# Altium footprint library l298n.PcbLib: 1 footprints
Each footprint in its own frame and in the unit in brackets; x right, y up, seen from the top. Pads: shape width x height; smd on the part's side, far side on the other; paste and mask are expansions set on the pad; w line width, h text height; cw(c..) or ccw(c..) is an arc to the next point about the centre after c.
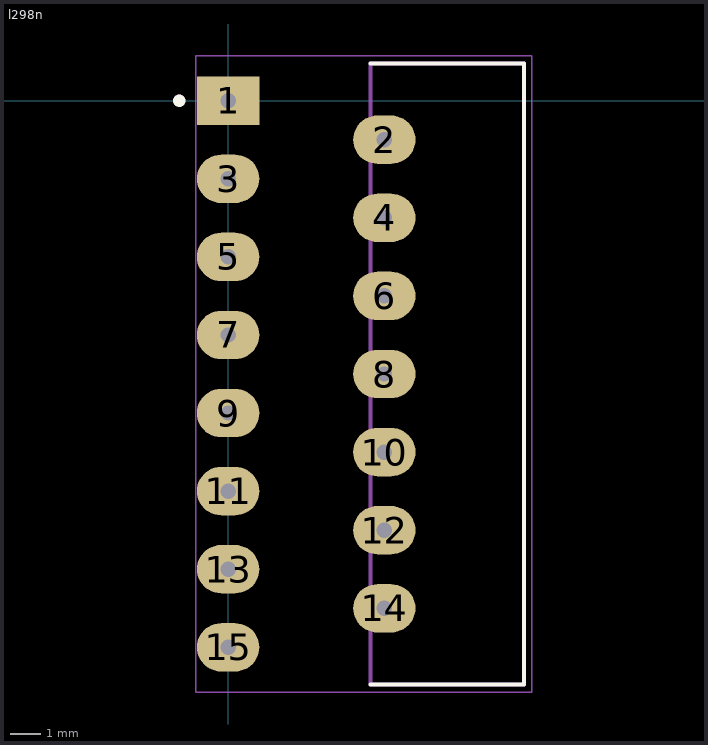
[diagram p0: the footprint, top view; thin cyan lines are the x and y axes]

## l298n [mil]
pads (15):
  rect 80x62 hole 19.68: 1(0,0)
  oval 80x62 hole 19.68: 2(200,-50) 3(0,-100) 4(200,-150) 5(0,-200) 6(200,-250) 7(0,-300) 8(200,-350) 9(0,-400) 10(200,-450) 11(0,-500) 12(200,-550) 13(0,-600) 14(200,-650) 15(0,-700)
Top Overlay:
  circle w7.87: c-62.6,0 r3.94
  lines w5: 182.28,-747.64 379.13,-747.64 379.13,47.64 182.28,47.64
Mechanical 13:
  circle w7.87: c-62.6,0 r3.94
  lines w5: 182.28,-747.64 182.28,47.64 379.13,47.64 379.13,-747.64 182.28,-747.64
Mechanical 15:
  lines w1.97: -41.73,-757.48 -41.73,57.48 388.98,57.48 388.98,-757.48 -41.73,-757.48